# Altium schematic symbol library Jumper.SchLib: 15 symbols
Pins are listed as number, name and electrical type; pins without a type are passive.

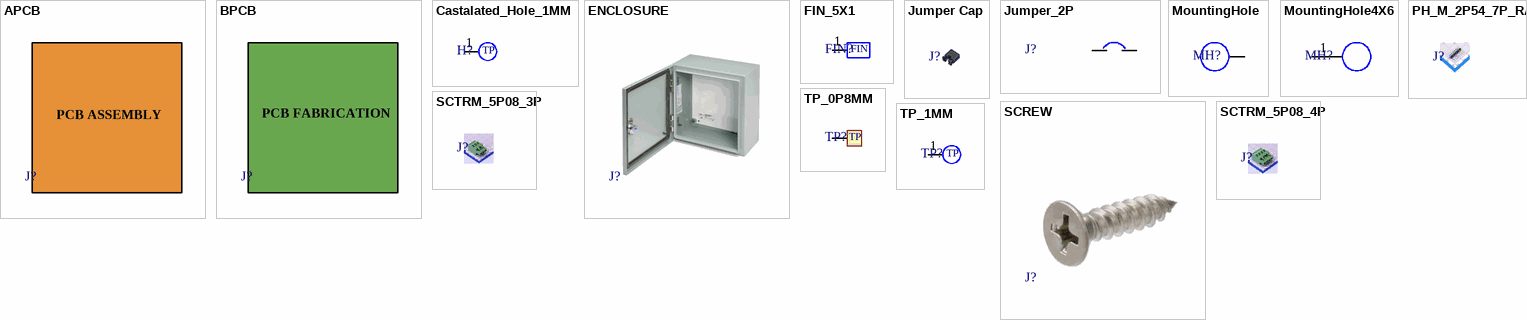
[diagram p0: symbols APCB to TP_1MM]

## APCB
designator J?
Assembled PCB; Value: *; Manufacturer 1: *; Manufacturer Part Number 1: *
text: PCB ASSEMBLY

## BPCB
designator J?
Bare PCB; Manufacturer Part Number 1: *; Manufacturer 1: *; Value: *
text: PCB FABRICATION

## Castalated_Hole_1MM
designator H?  (no BOM)
footprint CS_1MM
pins: 1
text: TP

## ENCLOSURE
designator J?
PCB Enclosure; Manufacturer Part Number 1: *; Manufacturer 1: *; Value: *

## FIN_5X1
designator FIN?  (no BOM)
FIN_5X1 Radiator
footprint FIN_5X1
pins: 1
text: FIN

## Jumper Cap
designator J?
2 Pin Jumper Cap P2.54; Manufacturer Part Number 1: *; Manufacturer 1: *; Value: *
footprint Jumper Cap

## Jumper_2P
designator J?
Jumper 2 Pins
footprint Jumper_2P
pins: 1, 2

## MountingHole
designator MH?  (mechanical)
footprint MountingHole4X6 (ID 4 OD 6)
footprint MountingHole3X3
pins: 1

## MountingHole4X6
designator MH?  (value not drawn)  (mechanical)
footprint MountingHole4X6
pins: 1

## PH_M_2P54_7P_RA
designator J?
Male Pin Header P 5.08mm 7 Pin Right Angle; Manufacturer Part Number 1: *; Manufacturer 1: *; Value: *
footprint PH_M_2P54_7P_RA

## SCREW
designator J?
Mounting Screw

## SCTRM_5P08_3P
designator J?
Screw Terminal Female 3 Pin 5.08mm; Manufacturer Part Number 1: *; Manufacturer 1: *; Value: *
footprint SCTRM_5P08_3P

## SCTRM_5P08_4P
designator J?
Screw Terminal Female 4 Pin 5.08mm; Manufacturer Part Number 1: *; Manufacturer 1: *; Value: *
footprint SCTRM_5P08_4P

## TP_0P8MM
designator TP?  (no BOM)
OSM Footprint 0P8 LGA Ball
footprint TP_0P8MM
pins: 1
text: TP

## TP_1MM
designator TP?  (value not drawn)  (no BOM)
footprint TP_1MM
pins: 1
text: TP